# Altium schematic symbol library SCH - INTERFACE - ST STUSB4700 QFN.SchLib: 1 symbol
Pins are listed as number, name and electrical type; pins without a type are passive.

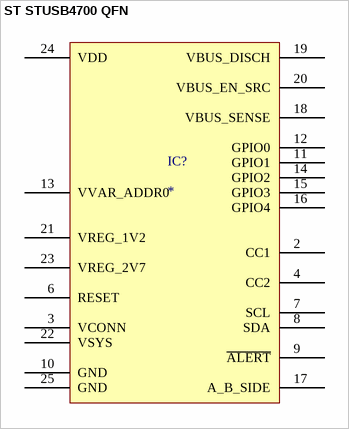
[diagram p0: symbol ST STUSB4700 QFN]

## ST STUSB4700 QFN
designator IC?
pins: 2 CC1, 3 VCONN, 4 CC2, 6 RESET, 7 SCL, 8 SDA, 9 ~{ALERT}, 10 GND, 11 GPIO1, 12 GPIO0, 13 VVAR_ADDR0, 14 GPIO2, 15 GPIO3, 16 GPIO4, 17 A_B_SIDE, 18 VBUS_SENSE, 19 VBUS_DISCH, 20 VBUS_EN_SRC, 21 VREG_1V2, 22 VSYS, 23 VREG_2V7, 24 VDD, 25 GND